# Altium integrated library Terminal Blocks - Headers, Plugs and Sockets.IntLib: 3 symbols
Pins are listed as number, name and electrical type; pins without a type are passive.

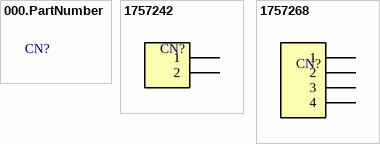
[diagram p0: symbols 000.PartNumber to 1757268]

## 000.PartNumber
designator CN?  (value not drawn)
Digikey Description; Manufacturer: *; Series: *; Package: *; Type: *; Number of Positions: *; Positions Per Level: *; Number of Levels: *; Pitch: *; Header Orientation: *; Plug Wire Entry: *; Termination Style: *; Mounting Type: *; Current - IEC: *; Wire Gauge or Range - AWG: *; Wire Gauge or Range - mm²: *; Color: *; Operating Temperature: *; Contact Mating Finish: *; Features: *; Material Flammability Rating: *; Ingress Protection: *; Screw Size: *; Torque - Screw: *; Wire Strip Length: *; Contact Material: *; Housing Material: *; Contact Tail Length: *; Insulation Height: *; Voltage - IEC: *; Current - UL: *; Voltage - UL: *; Base Product Number: *; Ozdisan Link: *; Digikey Link: *; Farnell TR Link: *; Mouser Link: *

## 1757242
designator CN?  (value not drawn)
TERM BLOCK HDR 2POS 90DEG 5.08MM; Manufacturer: Phoenix Contact; Number of Positions: 2; Number of Levels: 1; Pitch: 0.200" (5.08mm); Header Orientation: 90°, Right Angle; Current - IEC: 12 A; Material Flammability Rating: UL94 V-0; Contact Tail Length: 0.138" (3.50mm); Voltage - IEC: 400 V; Current - UL: 15 A; Voltage - UL: 300 V; Series: COMBICON MSTBA; Package: Bulk; Type: Header, Male Pins, Shrouded (4 Side); Positions Per Level: 2; Plug Wire Entry: -; Termination Style: Solder; Mounting Type: Through Hole; Wire Gauge or Range - AWG: -; Wire Gauge or Range - mm²: -; Color: Green; Operating Temperature: -40°C; Contact Mating Finish: Tin; Features: -; Ingress Protection: -; Screw Size: -; Torque - Screw: -; Wire Strip Length: -; Contact Material: -; Housing Material: Polyamide (PA), Nylon; Insulation Height: 0.339" (8.61mm); Base Product Number: -; Ozdisan Link: -; Digikey Link: https://www.digikey.com/en/products/detail/phoenix-contact/1757242/260474?s=N4IgTCBcDaIIwHYCsCwBYIF0C%2BQ; Farnell TR Link: https://tr.farnell.com/phoenix-contact/1757242/header-right-angle-5-08mm-2way/dp/3705171?ost=1757242; Mouser Link: https://www.mouser.com.tr/ProductDetail/Phoenix-Contact/1757242?qs=%2Fha2pyFadugVjodGKkrF4xNq%252BZEVHysqCHlL2cTnJ%252B8%3D
footprint PHOENIX_1757242
pins: 1, 2

## 1757268
designator CN?  (value not drawn)
TERM BLOCK HDR 4POS 90DEG 5.08MM; Manufacturer: Phoenix Contact; Number of Positions: 4; Number of Levels: 1; Pitch: 0.200" (5.08mm); Header Orientation: 90°, Right Angle; Current - IEC: 12 A; Material Flammability Rating: UL94 V-0; Contact Tail Length: 0.138" (3.50mm); Voltage - IEC: 400 V; Current - UL: 15 A; Voltage - UL: 300 V; Series: COMBICON MSTBA; Package: Bulk; Type: Header, Male Pins, Shrouded (4 Side); Positions Per Level: 4; Plug Wire Entry: -; Termination Style: Solder; Mounting Type: Through Hole; Wire Gauge or Range - AWG: -; Wire Gauge or Range - mm²: -; Color: Green; Operating Temperature: -40°C; Contact Mating Finish: Tin; Features: -; Ingress Protection: -; Screw Size: -; Torque - Screw: -; Wire Strip Length: -; Contact Material: -; Housing Material: Polyamide (PA), Nylon; Insulation Height: 0.339" (8.61mm); Base Product Number: -; Ozdisan Link: https://ozdisan.com/Product/Detail/345731/1757268; Digikey Link: https://www.digikey.com/en/products/detail/phoenix-contact/1757268/260476; Farnell TR Link: https://tr.farnell.com/phoenix-contact/1757268/connector-header-tht-ra-5-08mm/dp/3705195?ost=1757268; Mouser Link: https://www.mouser.com.tr/ProductDetail/Phoenix-Contact/1757268?qs=%2Fha2pyFaduhPIqWo0l09aJQKtnK4cE8ttAnLf01w0RA%3D
footprint PHOENIX_1757268
pins: 1, 2, 3, 4